# Altium integrated library Altium Database Library V2.IntLib: 721 symbols (part 3 of 35)

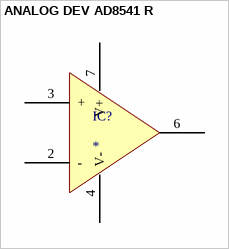
[diagram p46: symbol ANALOG DEV AD8541 R]

## ANALOG DEV AD8541 R
designator IC?
pins: 2 -, 3 +, 4 V-, 6 OUT, 7 V+


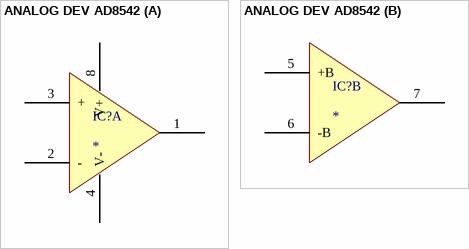
[diagram p47: symbol ANALOG DEV AD8542]

## ANALOG DEV AD8542
designator IC?
part A pins: 1 OUT, 2 -, 3 +, 4 V-, 8 V+
part B pins: 5 +B, 6 -B, 7 OUT B


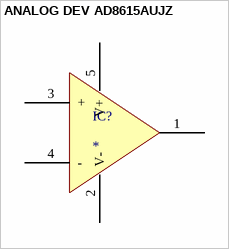
[diagram p48: symbol ANALOG DEV AD8615AUJZ]

## ANALOG DEV AD8615AUJZ
designator IC?
pins: 1 OUT, 2 V-, 3 +, 4 -, 5 V+


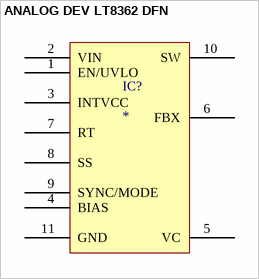
[diagram p49: symbol ANALOG DEV LT8362 DFN]

## ANALOG DEV LT8362 DFN
designator IC?
pins: 1 EN/UVLO, 2 VIN, 3 INTVCC, 4 BIAS, 5 VC, 6 FBX, 7 RT, 8 SS, 9 SYNC/MODE, 10 SW, 11 GND


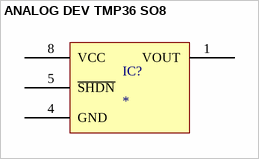
[diagram p50: symbol ANALOG DEV TMP36 SO8]

## ANALOG DEV TMP36 SO8
designator IC?
pins: 1 VOUT, 4 GND, 5 ~{SHDN}, 8 VCC


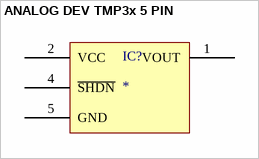
[diagram p51: symbol ANALOG DEV TMP3x 5 PIN]

## ANALOG DEV TMP3x 5 PIN
designator IC?
pins: 1 VOUT, 2 VCC, 4 ~{SHDN}, 5 GND


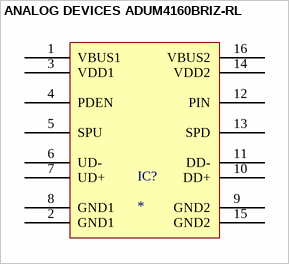
[diagram p52: symbol ANALOG DEVICES ADUM4160BRIZ-RL]

## ANALOG DEVICES ADUM4160BRIZ-RL
designator IC?
pins: 1 VBUS1, 2 GND1, 3 VDD1, 4 PDEN, 5 SPU, 6 UD-, 7 UD+, 8 GND1, 9 GND2, 10 DD+, 11 DD-, 12 PIN, 13 SPD, 14 VDD2, 15 GND2, 16 VBUS2


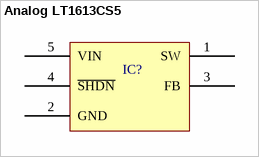
[diagram p53: symbol Analog LT1613CS5]

## Analog LT1613CS5
designator IC?
pins: 1 SW, 2 GND, 3 FB, 4 ~{SHDN}, 5 VIN


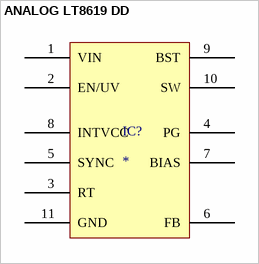
[diagram p54: symbol ANALOG LT8619 DD]

## ANALOG LT8619 DD
designator IC?
60V, 1.2A Synchronous Monolithic Buck Regulator with 6µA Quiescent Current
pins: 1 VIN, 2 EN/UV, 3 RT, 4 PG, 5 SYNC, 6 FB, 7 BIAS, 8 INTVCC, 9 BST, 10 SW, 11 GND


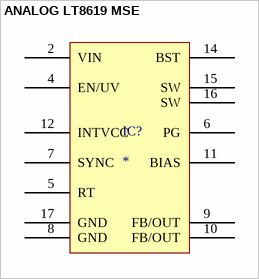
[diagram p55: symbol ANALOG LT8619 MSE]

## ANALOG LT8619 MSE
designator IC?
60V, 1.2A Synchronous Monolithic Buck Regulator with 6µA Quiescent Current
pins: 2 VIN, 4 EN/UV, 5 RT, 6 PG, 7 SYNC, 8 GND, 9 FB/OUT, 10 FB/OUT, 11 BIAS, 12 INTVCC, 14 BST, 15 SW, 16 SW, 17 GND


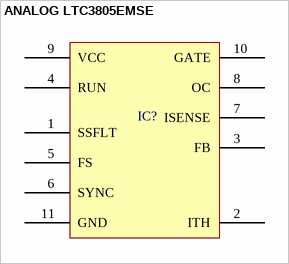
[diagram p56: symbol ANALOG LTC3805EMSE]

## ANALOG LTC3805EMSE
designator IC?
pins: 1 SSFLT, 2 ITH, 3 FB, 4 RUN, 5 FS, 6 SYNC, 7 ISENSE, 8 OC, 9 VCC, 10 GATE, 11 GND


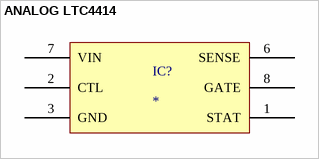
[diagram p57: symbol ANALOG LTC4414]

## ANALOG LTC4414
designator IC?
pins: 1 STAT, 2 CTL, 3 GND, 6 SENSE, 7 VIN, 8 GATE


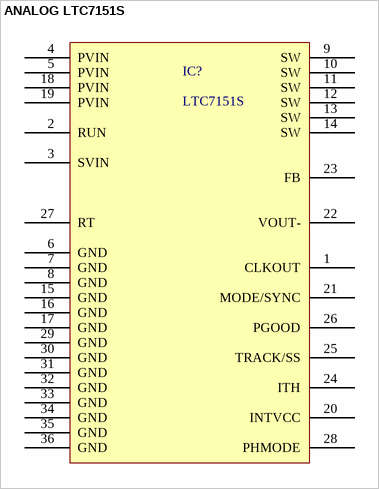
[diagram p58: symbol ANALOG LTC7151S]

## ANALOG LTC7151S
designator IC?, comment LTC7151S
pins: 1 CLKOUT, 2 RUN, 3 SVIN, 4 PVIN, 5 PVIN, 6 GND, 7 GND, 8 GND, 9 SW, 10 SW, 11 SW, 12 SW, 13 SW, 14 SW, 15 GND, 16 GND, 17 GND, 18 PVIN, 19 PVIN, 20 INTVCC, 21 MODE/SYNC, 22 VOUT-, 23 FB, 24 ITH, 25 TRACK/SS, 26 PGOOD, 27 RT, 28 PHMODE, 29 GND, 30 GND, 31 GND, 32 GND, 33 GND, 34 GND, 35 GND, 36 GND


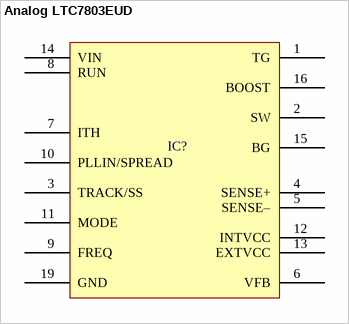
[diagram p59: symbol Analog LTC7803EUD]

## Analog LTC7803EUD
designator IC?
pins: 1 TG, 2 SW, 3 TRACK/SS, 4 SENSE+, 5 SENSE–, 6 VFB, 7 ITH, 8 RUN, 9 FREQ, 10 PLLIN/SPREAD, 11 MODE, 12 INTVCC, 13 EXTVCC, 14 VIN, 15 BG, 16 BOOST, 19 GND


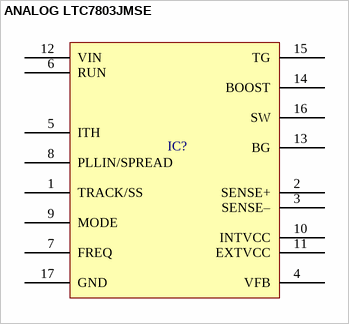
[diagram p60: symbol ANALOG LTC7803JMSE]

## ANALOG LTC7803JMSE
designator IC?
pins: 1 TRACK/SS, 2 SENSE+, 3 SENSE–, 4 VFB, 5 ITH, 6 RUN, 7 FREQ, 8 PLLIN/SPREAD, 9 MODE, 10 INTVCC, 11 EXTVCC, 12 VIN, 13 BG, 14 BOOST, 15 TG, 16 SW, 17 GND


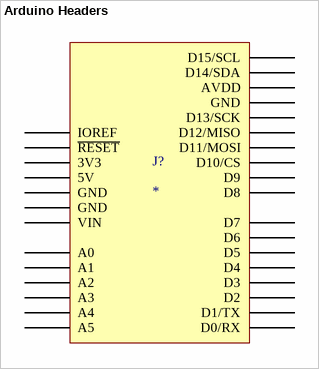
[diagram p61: symbol Arduino Headers]

## Arduino Headers
designator J?
pins: 2 IOREF, 3 ~{RESET}, 4 3V3, 5 5V, 6 GND, 7 GND, 8 VIN, 9 A0, 10 A1, 11 A2, 12 A3, 13 A4, 14 A5, 15 D0/RX, 16 D1/TX, 17 D2, 18 D3, 19 D4, 20 D5, 21 D6, 22 D7, 23 D8, 24 D9, 25 D10/CS, 26 D11/MOSI, 27 D12/MISO, 28 D13/SCK, 29 GND, 30 AVDD, 31 D14/SDA, 32 D15/SCL


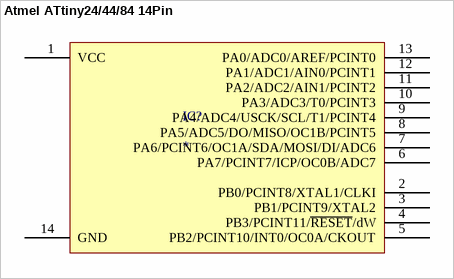
[diagram p62: symbol Atmel ATtiny24/44/84 14Pin]

## Atmel ATtiny24/44/84 14Pin
designator IC?
8-bit  Microcontroller  with 2K/4K/8K  Bytes In-System  Programmable  Flash
pins: 1 VCC, 2 PB0/PCINT8/XTAL1/CLKI, 3 PB1/PCINT9/XTAL2, 4 PB3/PCINT11/~{RESET}/dW, 5 PB2/PCINT10/INT0/OC0A/CKOUT, 6 PA7/PCINT7/ICP/OC0B/ADC7, 7 PA6/PCINT6/OC1A/SDA/MOSI/DI/ADC6, 8 PA5/ADC5/DO/MISO/OC1B/PCINT5, 9 PA4/ADC4/USCK/SCL/T1/PCINT4, 10 PA3/ADC3/T0/PCINT3, 11 PA2/ADC2/AIN1/PCINT2, 12 PA1/ADC1/AIN0/PCINT1, 13 PA0/ADC0/AREF/PCINT0, 14 GND


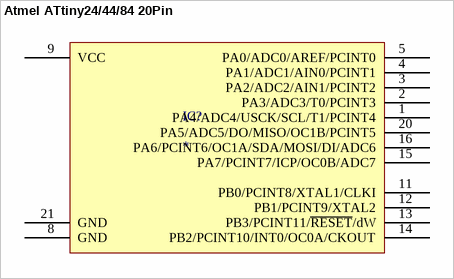
[diagram p63: symbol Atmel ATtiny24/44/84 20Pin]

## Atmel ATtiny24/44/84 20Pin
designator IC?
8-bit  Microcontroller  with 2K/4K/8K  Bytes In-System  Programmable  Flash
pins: 1 PA4/ADC4/USCK/SCL/T1/PCINT4, 2 PA3/ADC3/T0/PCINT3, 3 PA2/ADC2/AIN1/PCINT2, 4 PA1/ADC1/AIN0/PCINT1, 5 PA0/ADC0/AREF/PCINT0, 8 GND, 9 VCC, 11 PB0/PCINT8/XTAL1/CLKI, 12 PB1/PCINT9/XTAL2, 13 PB3/PCINT11/~{RESET}/dW, 14 PB2/PCINT10/INT0/OC0A/CKOUT, 15 PA7/PCINT7/ICP/OC0B/ADC7, 16 PA6/PCINT6/OC1A/SDA/MOSI/DI/ADC6, 20 PA5/ADC5/DO/MISO/OC1B/PCINT5, 21 GND


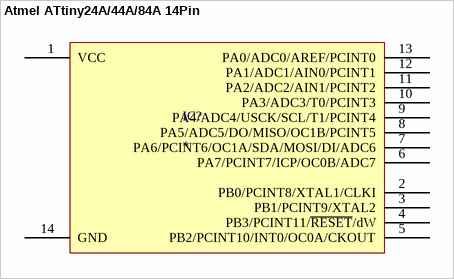
[diagram p64: symbol Atmel ATtiny24A/44A/84A 14Pin]

## Atmel ATtiny24A/44A/84A 14Pin
designator IC?
8-bit  Microcontroller  with 2K/4K/8K  Bytes In-System  Programmable  Flash
pins: 1 VCC, 2 PB0/PCINT8/XTAL1/CLKI, 3 PB1/PCINT9/XTAL2, 4 PB3/PCINT11/~{RESET}/dW, 5 PB2/PCINT10/INT0/OC0A/CKOUT, 6 PA7/PCINT7/ICP/OC0B/ADC7, 7 PA6/PCINT6/OC1A/SDA/MOSI/DI/ADC6, 8 PA5/ADC5/DO/MISO/OC1B/PCINT5, 9 PA4/ADC4/USCK/SCL/T1/PCINT4, 10 PA3/ADC3/T0/PCINT3, 11 PA2/ADC2/AIN1/PCINT2, 12 PA1/ADC1/AIN0/PCINT1, 13 PA0/ADC0/AREF/PCINT0, 14 GND


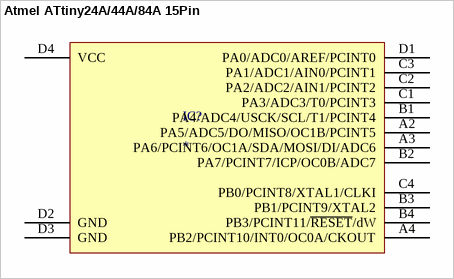
[diagram p65: symbol Atmel ATtiny24A/44A/84A 15Pin]

## Atmel ATtiny24A/44A/84A 15Pin
designator IC?
8-bit  Microcontroller  with 2K/4K/8K  Bytes In-System  Programmable  Flash
pins: A2 PA5/ADC5/DO/MISO/OC1B/PCINT5, A3 PA6/PCINT6/OC1A/SDA/MOSI/DI/ADC6, A4 PB2/PCINT10/INT0/OC0A/CKOUT, B1 PA4/ADC4/USCK/SCL/T1/PCINT4, B2 PA7/PCINT7/ICP/OC0B/ADC7, B3 PB1/PCINT9/XTAL2, B4 PB3/PCINT11/~{RESET}/dW, C1 PA3/ADC3/T0/PCINT3, C2 PA2/ADC2/AIN1/PCINT2, C3 PA1/ADC1/AIN0/PCINT1, C4 PB0/PCINT8/XTAL1/CLKI, D1 PA0/ADC0/AREF/PCINT0, D2 GND, D3 GND, D4 VCC


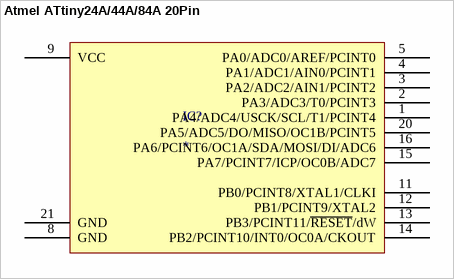
[diagram p66: symbol Atmel ATtiny24A/44A/84A 20Pin]

## Atmel ATtiny24A/44A/84A 20Pin
designator IC?
8-bit  Microcontroller  with 2K/4K/8K  Bytes In-System  Programmable  Flash
pins: 1 PA4/ADC4/USCK/SCL/T1/PCINT4, 2 PA3/ADC3/T0/PCINT3, 3 PA2/ADC2/AIN1/PCINT2, 4 PA1/ADC1/AIN0/PCINT1, 5 PA0/ADC0/AREF/PCINT0, 8 GND, 9 VCC, 11 PB0/PCINT8/XTAL1/CLKI, 12 PB1/PCINT9/XTAL2, 13 PB3/PCINT11/~{RESET}/dW, 14 PB2/PCINT10/INT0/OC0A/CKOUT, 15 PA7/PCINT7/ICP/OC0B/ADC7, 16 PA6/PCINT6/OC1A/SDA/MOSI/DI/ADC6, 20 PA5/ADC5/DO/MISO/OC1B/PCINT5, 21 GND


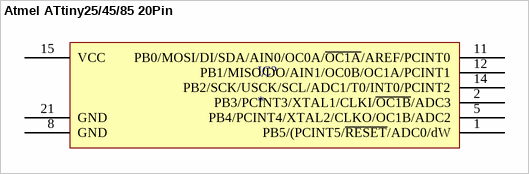
[diagram p67: symbol Atmel ATtiny25/45/85 20Pin]

## Atmel ATtiny25/45/85 20Pin
designator IC?
Atmel 8-bit AVR Microcontroller with 2/4/8K  Bytes In-System Programmable Flash
pins: 1 PB5/(PCINT5/~{RESET}/ADC0/dW, 2 PB3/PCINT3/XTAL1/CLKI/~{OC1B}/ADC3, 5 PB4/PCINT4/XTAL2/CLKO/OC1B/ADC2, 8 GND, 11 PB0/MOSI/DI/SDA/AIN0/OC0A/~{OC1A}/AREF/PCINT0, 12 PB1/MISO/DO/AIN1/OC0B/OC1A/PCINT1, 14 PB2/SCK/USCK/SCL/ADC1/T0/INT0/PCINT2, 15 VCC, 21 GND


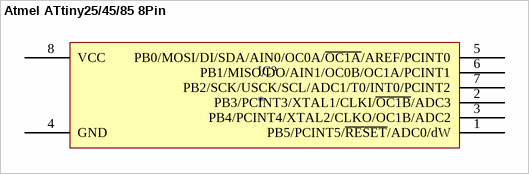
[diagram p68: symbol Atmel ATtiny25/45/85 8Pin]

## Atmel ATtiny25/45/85 8Pin
designator IC?
Atmel 8-bit AVR Microcontroller with 2/4/8K  Bytes In-System Programmable Flash
pins: 1 PB5/PCINT5/~{RESET}/ADC0/dW, 2 PB3/PCINT3/XTAL1/CLKI/~{OC1B}/ADC3, 3 PB4/PCINT4/XTAL2/CLKO/OC1B/ADC2, 4 GND, 5 PB0/MOSI/DI/SDA/AIN0/OC0A/~{OC1A}/AREF/PCINT0, 6 PB1/MISO/DO/AIN1/OC0B/OC1A/PCINT1, 7 PB2/SCK/USCK/SCL/ADC1/T0/INT0/PCINT2, 8 VCC
